# EAGLE library part SERVO-6 (library connector)
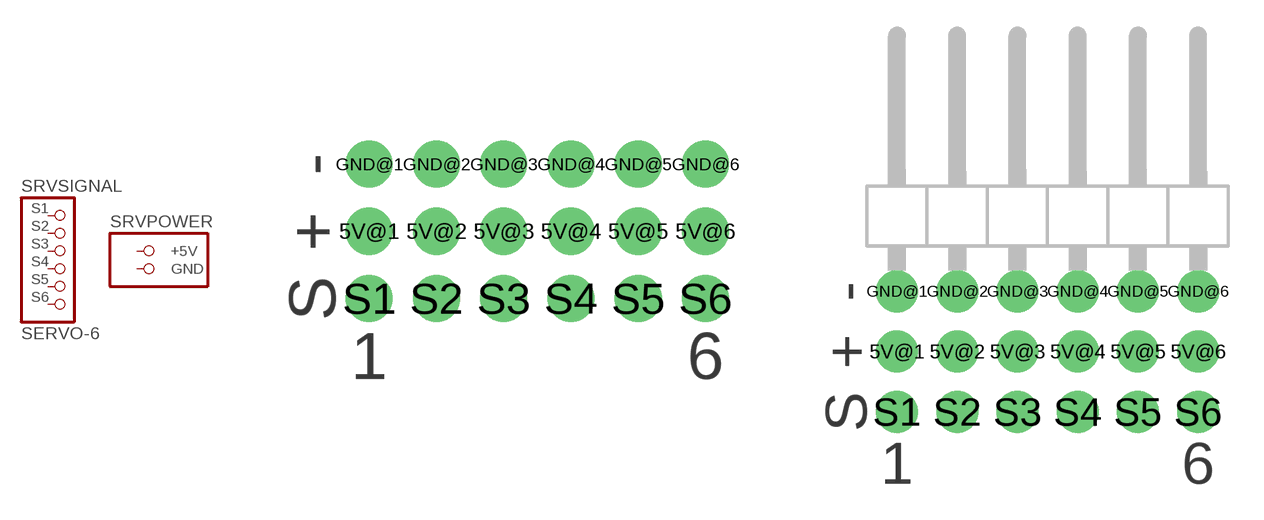
[diagram p2: symbol with the pads of SERVO-06; footprints SERVO-06, SERVO-06/90]

Designator prefix SRV; gates SIGNAL=HEADER-6POS POWER=PWR5V

## SERVO-6  [SERVO-06]
5V@1  POWER:+5V  pwr
5V@2  POWER:+5V  pwr
5V@3  POWER:+5V  pwr
5V@4  POWER:+5V  pwr
5V@5  POWER:+5V  pwr
5V@6  POWER:+5V  pwr
GND@1  POWER:GND  pwr
GND@2  POWER:GND  pwr
GND@3  POWER:GND  pwr
GND@4  POWER:GND  pwr
GND@5  POWER:GND  pwr
GND@6  POWER:GND  pwr
S1  SIGNAL:P$1
S2  SIGNAL:P$2
S3  SIGNAL:P$3
S4  SIGNAL:P$4
S5  SIGNAL:P$5
S6  SIGNAL:P$6

## SERVO-6/90  [SERVO-06/90]
Pads as for SERVO-06

## Footprint SERVO-06 (pad centres in mm)
drill 1 pad 1.778: 5V@1 -7.62,0; 5V@2 -5.08,0; 5V@3 -2.54,0; 5V@4 0,0; 5V@5 2.54,0; 5V@6 5.08,0; GND@1 -7.62,2.54; GND@2 -5.08,2.54; GND@3 -2.54,2.54; GND@4 0,2.54; GND@5 2.54,2.54; GND@6 5.08,2.54; S1 -7.62,-2.54; S2 -5.08,-2.54; S3 -2.54,-2.54; S4 0,-2.54; S5 2.54,-2.54; S6 5.08,-2.54

## Footprint SERVO-06/90 (pad centres in mm)
drill 1 pad 1.778: 5V@1 -7.62,0; 5V@2 -5.08,0; 5V@3 -2.54,0; 5V@4 0,0; 5V@5 2.54,0; 5V@6 5.08,0; GND@1 -7.62,2.54; GND@2 -5.08,2.54; GND@3 -2.54,2.54; GND@4 0,2.54; GND@5 2.54,2.54; GND@6 5.08,2.54; S1 -7.62,-2.54; S2 -5.08,-2.54; S3 -2.54,-2.54; S4 0,-2.54; S5 2.54,-2.54; S6 5.08,-2.54